# EAGLE library part TEENSY_3.2_SIMPLE (library HyTechDevices)
Simple version of the Teensy 3.2 board that only uses the 2 main rows of pins, not the inner pins or the pins opposite the usb port.
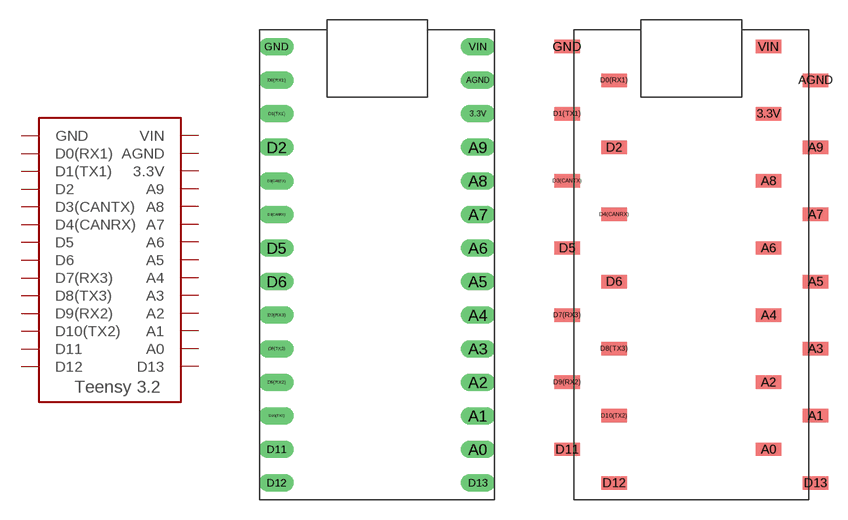
[diagram p31: symbol with the pads of TEENSY_3.2_SIMPLE; footprints TEENSY_3.2_SIMPLE, TEENSY_3.2_SIMPLE_SMD]

Designator prefix -

## TEENSY_3.2_SIMPLE  [TEENSY_3.2_SIMPLE]
3.3V  3.3V
A0  A0
A1  A1
A2  A2
A3  A3
A4  A4
A5  A5
A6  A6
A7  A7
A8  A8
A9  A9
AGND  AGND
D0(RX1)  D0(RX1)
D1(TX1)  D1(TX1)
D2  D2
D3(CANTX)  D3(CANTX)
D4(CANRX)  D4(CANRX)
D5  D5
D6  D6
D7(RX3)  D7(RX3)
D8(TX3)  D8(TX3)
D9(RX2)  D9(RX2)
D10(TX2)  D10(TX2)
D11  D11
D12  D12
D13  D13
GND  GND
VIN  VIN

## TEENSY_3.2_SIMPLESMD  [TEENSY_3.2_SIMPLE_SMD]
Pads as for TEENSY_3.2_SIMPLE

## Footprint TEENSY_3.2_SIMPLE (pad centres in mm)
drill 0.8 long: 3.3V 16.51,29.21; A0 16.51,3.81; A1 16.51,6.35; A2 16.51,8.89; A3 16.51,11.43; A4 16.51,13.97; A5 16.51,16.51; A6 16.51,19.05; A7 16.51,21.59; A8 16.51,24.13; A9 16.51,26.67; AGND 16.51,31.75; D0(RX1) 1.27,31.75; D1(TX1) 1.27,29.21; D2 1.27,26.67; D3(CANTX) 1.27,24.13; D4(CANRX) 1.27,21.59; D5 1.27,19.05; D6 1.27,16.51; D7(RX3) 1.27,13.97; D8(TX3) 1.27,11.43; D9(RX2) 1.27,8.89; D10(TX2) 1.27,6.35; D11 1.27,3.81; D12 1.27,1.27; D13 16.51,1.27; GND 1.27,34.29; VIN 16.51,34.29

## Footprint TEENSY_3.2_SIMPLE_SMD (pad centres in mm)
smd 1.905 x 1.016: 3.3V 14.732,29.21; A0 14.732,3.81; A1 18.288,6.35; A2 14.732,8.89; A3 18.288,11.43; A4 14.732,13.97; A5 18.288,16.51; A6 14.732,19.05; A7 18.288,21.59; A8 14.732,24.13; A9 18.288,26.67; AGND 18.288,31.75; D0(RX1) 3.048,31.75; D1(TX1) -0.508,29.21; D2 3.048,26.67; D3(CANTX) -0.508,24.13; D4(CANRX) 3.048,21.59; D5 -0.508,19.05; D6 3.048,16.51; D7(RX3) -0.508,13.97; D8(TX3) 3.048,11.43; D9(RX2) -0.508,8.89; D10(TX2) 3.048,6.35; D11 -0.508,3.81; D12 3.048,1.27; D13 18.288,1.27; GND -0.508,34.29; VIN 14.732,34.29